# Altium schematic symbol library rcl.SCHLIB: 895 symbols (part 4 of 5)
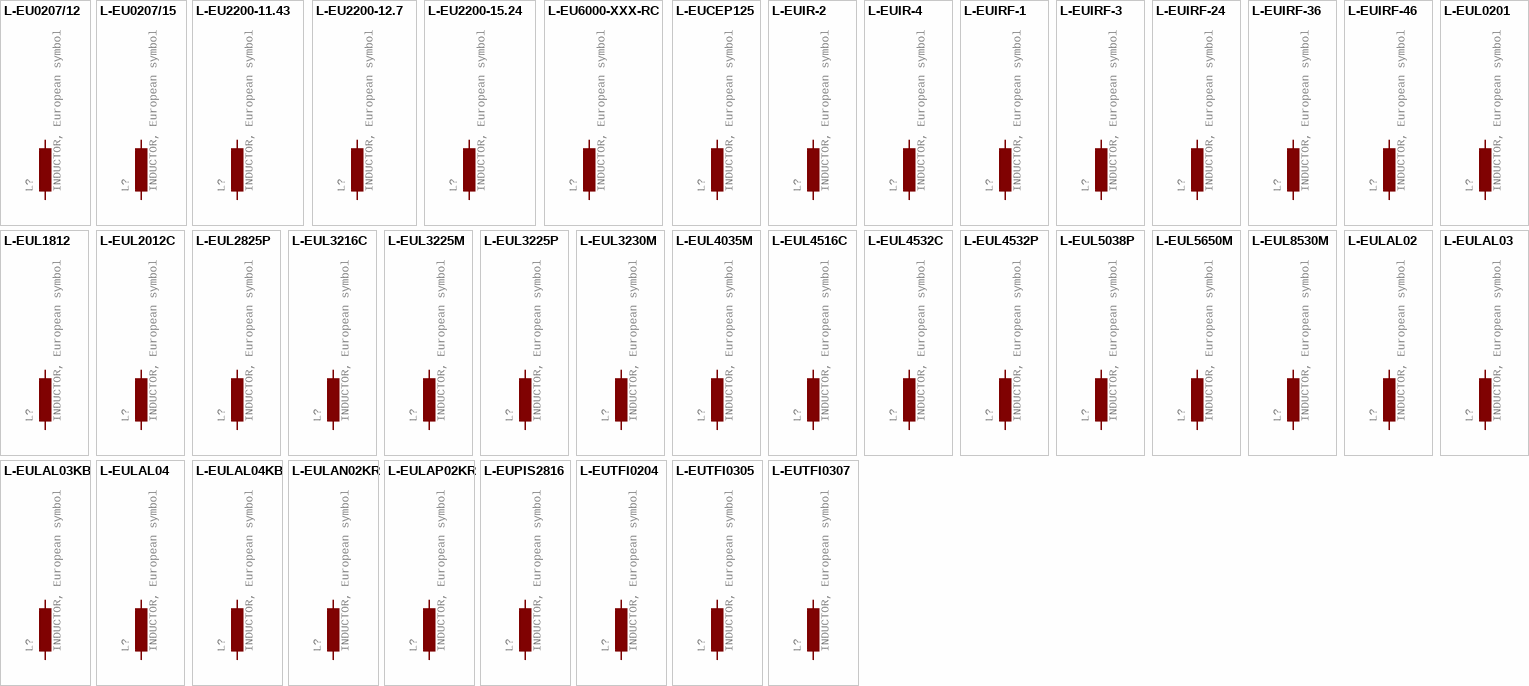
[diagram p25: symbols L-EU0207/12 to L-EUTFI0307]

## L-EUL3216C
designator L?, comment INDUCTOR, European symbol
GateName_1: G$1; SymbolName_1: L-EU; DeviceName: L3216C; POPULARITY: 2; LibraryName: rcl; DeviceSetName: L-EU; Package: L3216C; SPICEPREFIX: L
footprint L3216C
pins: 1, 2

## L-EUL3225M
designator L?, comment INDUCTOR, European symbol
GateName_1: G$1; SymbolName_1: L-EU; DeviceName: L3225M; POPULARITY: 2; LibraryName: rcl; DeviceSetName: L-EU; Package: L3225M; SPICEPREFIX: L
footprint L3225M
pins: 1, 2

## L-EUL3225P
designator L?, comment INDUCTOR, European symbol
GateName_1: G$1; SymbolName_1: L-EU; DeviceName: L3225P; POPULARITY: 0; LibraryName: rcl; DeviceSetName: L-EU; Package: L3225P; SPICEPREFIX: L
footprint L3225P
pins: 1, 2

## L-EUL3230M
designator L?, comment INDUCTOR, European symbol
GateName_1: G$1; SymbolName_1: L-EU; DeviceName: L3230M; POPULARITY: 0; LibraryName: rcl; DeviceSetName: L-EU; Package: L3230M; SPICEPREFIX: L
footprint L3230M
pins: 1, 2

## L-EUL4035M
designator L?, comment INDUCTOR, European symbol
GateName_1: G$1; SymbolName_1: L-EU; DeviceName: L4035M; POPULARITY: 0; LibraryName: rcl; DeviceSetName: L-EU; Package: L4035M; SPICEPREFIX: L
footprint L4035M
pins: 1, 2

## L-EUL4516C
designator L?, comment INDUCTOR, European symbol
GateName_1: G$1; SymbolName_1: L-EU; DeviceName: L4516C; POPULARITY: 0; LibraryName: rcl; DeviceSetName: L-EU; Package: L4516C; SPICEPREFIX: L
footprint L4516C
pins: 1, 2

## L-EUL4532C
designator L?, comment INDUCTOR, European symbol
GateName_1: G$1; SymbolName_1: L-EU; DeviceName: L4532C; POPULARITY: 0; LibraryName: rcl; DeviceSetName: L-EU; Package: L4532M; SPICEPREFIX: L
footprint L4532M
pins: 1, 2

## L-EUL4532P
designator L?, comment INDUCTOR, European symbol
GateName_1: G$1; SymbolName_1: L-EU; DeviceName: L4532P; POPULARITY: 0; LibraryName: rcl; DeviceSetName: L-EU; Package: L4532P; SPICEPREFIX: L
footprint L4532P
pins: 1, 2

## L-EUL5038P
designator L?, comment INDUCTOR, European symbol
GateName_1: G$1; SymbolName_1: L-EU; DeviceName: L5038P; POPULARITY: 0; LibraryName: rcl; DeviceSetName: L-EU; Package: L5038P; SPICEPREFIX: L
footprint L5038P
pins: 1, 2

## L-EUL5650M
designator L?, comment INDUCTOR, European symbol
GateName_1: G$1; SymbolName_1: L-EU; DeviceName: L5650M; POPULARITY: 0; LibraryName: rcl; DeviceSetName: L-EU; Package: L5650M; SPICEPREFIX: L
footprint L5650M
pins: 1, 2

## L-EUL8530M
designator L?, comment INDUCTOR, European symbol
GateName_1: G$1; SymbolName_1: L-EU; DeviceName: L8530M; POPULARITY: 0; LibraryName: rcl; DeviceSetName: L-EU; Package: L8530M; SPICEPREFIX: L
footprint L8530M
pins: 1, 2

## L-EULAL02
designator L?, comment INDUCTOR, European symbol
GateName_1: G$1; SymbolName_1: L-EU; DeviceName: LAL02; POPULARITY: 0; LibraryName: rcl; DeviceSetName: L-EU; Package: LAL02; SPICEPREFIX: L
footprint LAL02
pins: 1, 2

## L-EULAL03
designator L?, comment INDUCTOR, European symbol
GateName_1: G$1; SymbolName_1: L-EU; DeviceName: LAL03; POPULARITY: 0; LibraryName: rcl; DeviceSetName: L-EU; Package: LAL03; SPICEPREFIX: L
footprint LAL03
pins: 1, 2

## L-EULAL03KB
designator L?, comment INDUCTOR, European symbol
GateName_1: G$1; SymbolName_1: L-EU; DeviceName: LAL03KB; POPULARITY: 0; LibraryName: rcl; DeviceSetName: L-EU; Package: LAL03KH; SPICEPREFIX: L
footprint LAL03KH
pins: 1, 2

## L-EULAL04
designator L?, comment INDUCTOR, European symbol
GateName_1: G$1; SymbolName_1: L-EU; DeviceName: LAL04; POPULARITY: 0; LibraryName: rcl; DeviceSetName: L-EU; Package: LAL04; SPICEPREFIX: L
footprint LAL04
pins: 1, 2

## L-EULAL04KB
designator L?, comment INDUCTOR, European symbol
GateName_1: G$1; SymbolName_1: L-EU; DeviceName: LAL04KB; POPULARITY: 0; LibraryName: rcl; DeviceSetName: L-EU; Package: LAL04KB; SPICEPREFIX: L
footprint LAL04KB
pins: 1, 2

## L-EULAN02KR
designator L?, comment INDUCTOR, European symbol
GateName_1: G$1; SymbolName_1: L-EU; DeviceName: LAN02KR; POPULARITY: 0; LibraryName: rcl; DeviceSetName: L-EU; Package: LAN02KR; SPICEPREFIX: L
footprint LAN02KR
pins: 1, 2

## L-EULAP02KR
designator L?, comment INDUCTOR, European symbol
GateName_1: G$1; SymbolName_1: L-EU; DeviceName: LAP02KR; POPULARITY: 0; LibraryName: rcl; DeviceSetName: L-EU; Package: LAP02KR; SPICEPREFIX: L
footprint LAP02KR
pins: 1, 2

## L-EUPIS2816
designator L?, comment INDUCTOR, European symbol
GateName_1: G$1; SymbolName_1: L-EU; DeviceName: PIS2816; POPULARITY: 5; LibraryName: rcl; DeviceSetName: L-EU; Package: PIS2816; SPICEPREFIX: L
footprint PIS2816
pins: 1, 2

## L-EUTFI0204
designator L?, comment INDUCTOR, European symbol
GateName_1: G$1; SymbolName_1: L-EU; DeviceName: TFI0204; POPULARITY: 0; LibraryName: rcl; DeviceSetName: L-EU; Package: TFI0204; SPICEPREFIX: L
footprint TFI0204
pins: 1, 2

## L-EUTFI0305
designator L?, comment INDUCTOR, European symbol
GateName_1: G$1; SymbolName_1: L-EU; DeviceName: TFI0305; POPULARITY: 0; LibraryName: rcl; DeviceSetName: L-EU; Package: TFI0305; SPICEPREFIX: L
footprint TFI0305
pins: 1, 2

## L-EUTFI0307
designator L?, comment INDUCTOR, European symbol
GateName_1: G$1; SymbolName_1: L-EU; DeviceName: TFI0307; POPULARITY: 0; LibraryName: rcl; DeviceSetName: L-EU; Package: TFI0307; SPICEPREFIX: L
footprint TFI0307
pins: 1, 2

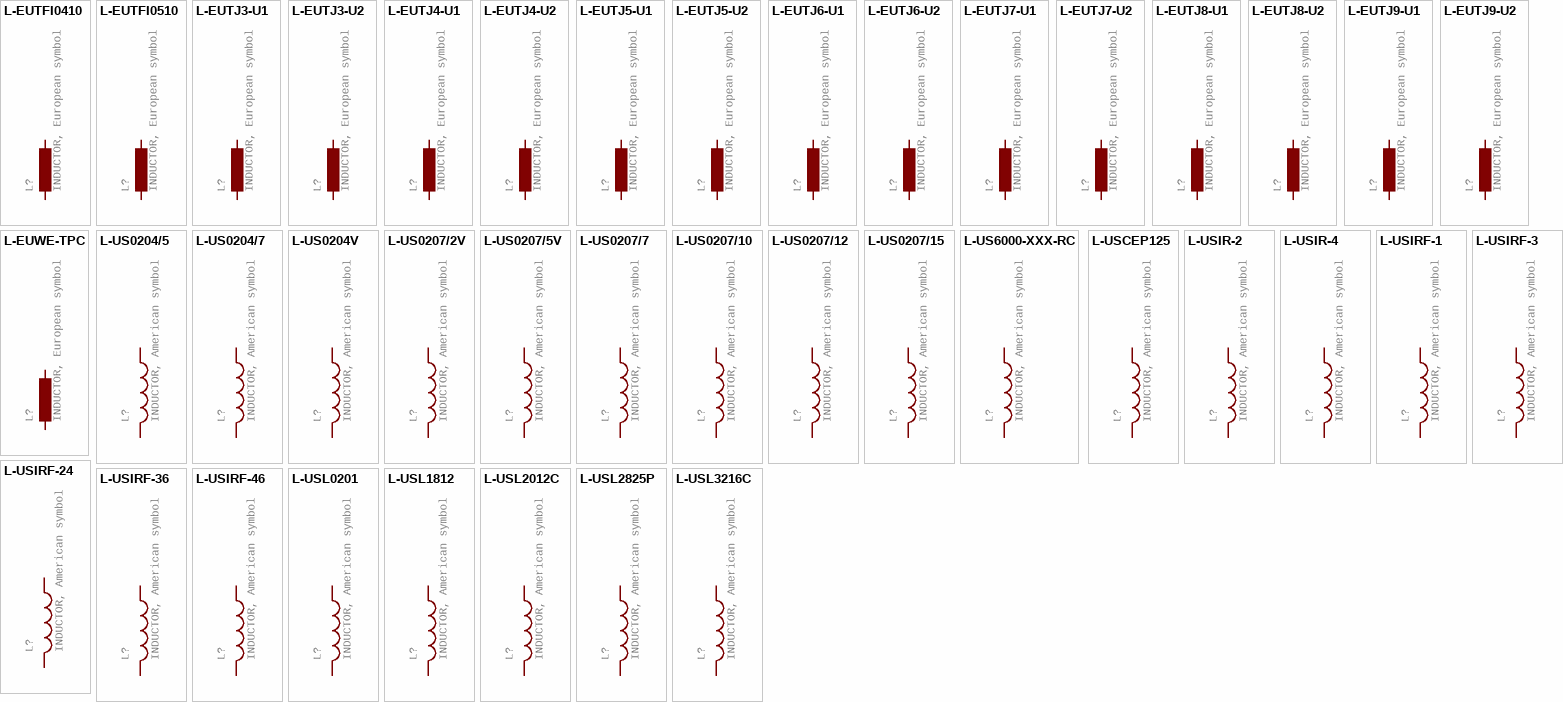
[diagram p15: symbols L-EUTFI0410 to L-USL3216C]

## L-EUTFI0410
designator L?, comment INDUCTOR, European symbol
GateName_1: G$1; SymbolName_1: L-EU; DeviceName: TFI0410; POPULARITY: 0; LibraryName: rcl; DeviceSetName: L-EU; Package: TFI0410; SPICEPREFIX: L
footprint TFI0410
pins: 1, 2

## L-EUTFI0510
designator L?, comment INDUCTOR, European symbol
GateName_1: G$1; SymbolName_1: L-EU; DeviceName: TFI0510; POPULARITY: 0; LibraryName: rcl; DeviceSetName: L-EU; Package: TFI0510; SPICEPREFIX: L
footprint TFI0510
pins: 1, 2

## L-EUTJ3-U1
designator L?, comment INDUCTOR, European symbol
GateName_1: G$1; SymbolName_1: L-EU; DeviceName: TJ3-U1; POPULARITY: 1; LibraryName: rcl; DeviceSetName: L-EU; Package: TJ3-U1; SPICEPREFIX: L
footprint TJ3-U1
pins: 1, 2

## L-EUTJ3-U2
designator L?, comment INDUCTOR, European symbol
GateName_1: G$1; SymbolName_1: L-EU; DeviceName: TJ3-U2; POPULARITY: 0; LibraryName: rcl; DeviceSetName: L-EU; Package: TJ3-U2; SPICEPREFIX: L
footprint TJ3-U2
pins: 1, 2

## L-EUTJ4-U1
designator L?, comment INDUCTOR, European symbol
GateName_1: G$1; SymbolName_1: L-EU; DeviceName: TJ4-U1; POPULARITY: 0; LibraryName: rcl; DeviceSetName: L-EU; Package: TJ4-U1; SPICEPREFIX: L
footprint TJ4-U1
pins: 1, 2

## L-EUTJ4-U2
designator L?, comment INDUCTOR, European symbol
GateName_1: G$1; SymbolName_1: L-EU; DeviceName: TJ4-U2; POPULARITY: 0; LibraryName: rcl; DeviceSetName: L-EU; Package: TJ4-U2; SPICEPREFIX: L
footprint TJ4-U2
pins: 1, 2

## L-EUTJ5-U1
designator L?, comment INDUCTOR, European symbol
GateName_1: G$1; SymbolName_1: L-EU; DeviceName: TJ5-U1; POPULARITY: 0; LibraryName: rcl; DeviceSetName: L-EU; Package: TJ5-U1; SPICEPREFIX: L
footprint TJ5-U1
pins: 1, 2

## L-EUTJ5-U2
designator L?, comment INDUCTOR, European symbol
GateName_1: G$1; SymbolName_1: L-EU; DeviceName: TJ5-U2; POPULARITY: 0; LibraryName: rcl; DeviceSetName: L-EU; Package: TJ5-U2; SPICEPREFIX: L
footprint TJ5-U2
pins: 1, 2

## L-EUTJ6-U1
designator L?, comment INDUCTOR, European symbol
GateName_1: G$1; SymbolName_1: L-EU; DeviceName: TJ6-U1; POPULARITY: 0; LibraryName: rcl; DeviceSetName: L-EU; Package: TJ6-U1; SPICEPREFIX: L
footprint TJ6-U1
pins: 1, 2

## L-EUTJ6-U2
designator L?, comment INDUCTOR, European symbol
GateName_1: G$1; SymbolName_1: L-EU; DeviceName: TJ6-U2; POPULARITY: 0; LibraryName: rcl; DeviceSetName: L-EU; Package: TJ6-U2; SPICEPREFIX: L
footprint TJ6-U2
pins: 1, 2

## L-EUTJ7-U1
designator L?, comment INDUCTOR, European symbol
GateName_1: G$1; SymbolName_1: L-EU; DeviceName: TJ7-U1; POPULARITY: 0; LibraryName: rcl; DeviceSetName: L-EU; Package: TJ7-U1; SPICEPREFIX: L
footprint TJ7-U1
pins: 1, 2

## L-EUTJ7-U2
designator L?, comment INDUCTOR, European symbol
GateName_1: G$1; SymbolName_1: L-EU; DeviceName: TJ7-U2; POPULARITY: 0; LibraryName: rcl; DeviceSetName: L-EU; Package: TJ7-U2; SPICEPREFIX: L
footprint TJ7-U2
pins: 1, 2

## L-EUTJ8-U1
designator L?, comment INDUCTOR, European symbol
GateName_1: G$1; SymbolName_1: L-EU; DeviceName: TJ8-U1; POPULARITY: 0; LibraryName: rcl; DeviceSetName: L-EU; Package: TJ8-U1; SPICEPREFIX: L
footprint TJ8-U1
pins: 1, 2

## L-EUTJ8-U2
designator L?, comment INDUCTOR, European symbol
GateName_1: G$1; SymbolName_1: L-EU; DeviceName: TJ8-U2; POPULARITY: 0; LibraryName: rcl; DeviceSetName: L-EU; Package: TJ8-U2; SPICEPREFIX: L
footprint TJ8-U2
pins: 1, 2

## L-EUTJ9-U1
designator L?, comment INDUCTOR, European symbol
GateName_1: G$1; SymbolName_1: L-EU; DeviceName: TJ9-U1; POPULARITY: 0; LibraryName: rcl; DeviceSetName: L-EU; Package: TJ9-U1; SPICEPREFIX: L
footprint TJ9-U1
pins: 1, 2

## L-EUTJ9-U2
designator L?, comment INDUCTOR, European symbol
GateName_1: G$1; SymbolName_1: L-EU; DeviceName: TJ9-U2; POPULARITY: 0; LibraryName: rcl; DeviceSetName: L-EU; Package: TJ9-U2; SPICEPREFIX: L
footprint TJ9-U2
pins: 1, 2

## L-EUWE-TPC
designator L?, comment INDUCTOR, European symbol
GateName_1: G$1; SymbolName_1: L-EU; DeviceName: WE-TPC; POPULARITY: 0; LibraryName: rcl; DeviceSetName: L-EU; Package: POWER-CHOKE_WE-TPC; SPICEPREFIX: L
footprint POWER-CHOKE_WE-TPC
pins: 1, 2

## L-US0204/5
designator L?, comment INDUCTOR, American symbol
GateName_1: G$1; SymbolName_1: L-US; DeviceName: 0204/5; POPULARITY: 0; LibraryName: rcl; DeviceSetName: L-US; Package: 0204/5; SPICEPREFIX: L
footprint 0204/5
pins: 1, 2

## L-US0204/7
designator L?, comment INDUCTOR, American symbol
GateName_1: G$1; SymbolName_1: L-US; DeviceName: 0204/7; POPULARITY: 8; LibraryName: rcl; DeviceSetName: L-US; Package: 0204/7; SPICEPREFIX: L
footprint 0204/7
pins: 1, 2

## L-US0204V
designator L?, comment INDUCTOR, American symbol
GateName_1: G$1; SymbolName_1: L-US; DeviceName: 0204V; POPULARITY: 0; LibraryName: rcl; DeviceSetName: L-US; Package: 0204V; SPICEPREFIX: L
footprint 0204V
pins: 1, 2

## L-US0207/2V
designator L?, comment INDUCTOR, American symbol
GateName_1: G$1; SymbolName_1: L-US; DeviceName: 0207/2V; POPULARITY: 0; LibraryName: rcl; DeviceSetName: L-US; Package: 0207/2V; SPICEPREFIX: L
footprint 0207/2V
pins: 1, 2

## L-US0207/5V
designator L?, comment INDUCTOR, American symbol
GateName_1: G$1; SymbolName_1: L-US; DeviceName: 0207/5V; POPULARITY: 0; LibraryName: rcl; DeviceSetName: L-US; Package: 0207/5V; SPICEPREFIX: L
footprint 0207/5V
pins: 1, 2

## L-US0207/7
designator L?, comment INDUCTOR, American symbol
GateName_1: G$1; SymbolName_1: L-US; DeviceName: 0207/7; POPULARITY: 2; LibraryName: rcl; DeviceSetName: L-US; Package: 0207/7; SPICEPREFIX: L
footprint 0207/7
pins: 1, 2

## L-US0207/10
designator L?, comment INDUCTOR, American symbol
GateName_1: G$1; SymbolName_1: L-US; DeviceName: 0207/10; POPULARITY: 6; LibraryName: rcl; DeviceSetName: L-US; Package: 0207/10; SPICEPREFIX: L
footprint 0207/10
pins: 1, 2

## L-US0207/12
designator L?, comment INDUCTOR, American symbol
GateName_1: G$1; SymbolName_1: L-US; DeviceName: 0207/12; POPULARITY: 0; LibraryName: rcl; DeviceSetName: L-US; Package: 0207/12; SPICEPREFIX: L
footprint 0207/12
pins: 1, 2

## L-US0207/15
designator L?, comment INDUCTOR, American symbol
GateName_1: G$1; SymbolName_1: L-US; DeviceName: 0207/15; POPULARITY: 0; LibraryName: rcl; DeviceSetName: L-US; Package: 0207/15; SPICEPREFIX: L
footprint 0207/15
pins: 1, 2

## L-US6000-XXX-RC
designator L?, comment INDUCTOR, American symbol
GateName_1: G$1; SymbolName_1: L-US; DeviceName: 6000-XXX-RC; POPULARITY: 5; LibraryName: rcl; DeviceSetName: L-US; Package: 6000-XXXX-RC; SPICEPREFIX: L
footprint 6000-XXXX-RC
pins: 1, 2

## L-USCEP125
designator L?, comment INDUCTOR, American symbol
GateName_1: G$1; SymbolName_1: L-US; DeviceName: CEP125; POPULARITY: 0; LibraryName: rcl; DeviceSetName: L-US; Package: CEP125; SPICEPREFIX: L
footprint CEP125
pins: 1, 2

## L-USIR-2
designator L?, comment INDUCTOR, American symbol
GateName_1: G$1; SymbolName_1: L-US; DeviceName: IR-2; POPULARITY: 0; LibraryName: rcl; DeviceSetName: L-US; Package: IR-2; SPICEPREFIX: L
footprint IR-2
pins: 1, 2

## L-USIR-4
designator L?, comment INDUCTOR, American symbol
GateName_1: G$1; SymbolName_1: L-US; DeviceName: IR-4; POPULARITY: 0; LibraryName: rcl; DeviceSetName: L-US; Package: IR-4; SPICEPREFIX: L
footprint IR-4
pins: 1, 2

## L-USIRF-1
designator L?, comment INDUCTOR, American symbol
GateName_1: G$1; SymbolName_1: L-US; DeviceName: IRF-1; POPULARITY: 0; LibraryName: rcl; DeviceSetName: L-US; Package: IRF-1; SPICEPREFIX: L
footprint IRF-1
pins: 1, 2

## L-USIRF-3
designator L?, comment INDUCTOR, American symbol
GateName_1: G$1; SymbolName_1: L-US; DeviceName: IRF-3; POPULARITY: 0; LibraryName: rcl; DeviceSetName: L-US; Package: IRF-3; SPICEPREFIX: L
footprint IRF-3
pins: 1, 2

## L-USIRF-24
designator L?, comment INDUCTOR, American symbol
GateName_1: G$1; SymbolName_1: L-US; DeviceName: IRF-24; POPULARITY: 0; LibraryName: rcl; DeviceSetName: L-US; Package: IRF24; SPICEPREFIX: L
footprint IRF24
pins: 1, 2

## L-USIRF-36
designator L?, comment INDUCTOR, American symbol
GateName_1: G$1; SymbolName_1: L-US; DeviceName: IRF-36; POPULARITY: 0; LibraryName: rcl; DeviceSetName: L-US; Package: IRF36; SPICEPREFIX: L
footprint IRF36
pins: 1, 2

## L-USIRF-46
designator L?, comment INDUCTOR, American symbol
GateName_1: G$1; SymbolName_1: L-US; DeviceName: IRF-46; POPULARITY: 0; LibraryName: rcl; DeviceSetName: L-US; Package: IRF46; SPICEPREFIX: L
footprint IRF46
pins: 1, 2

## L-USL0201
designator L?, comment INDUCTOR, American symbol
GateName_1: G$1; SymbolName_1: L-US; DeviceName: L0201; POPULARITY: 0; LibraryName: rcl; DeviceSetName: L-US; Package: L0201; SPICEPREFIX: L
footprint L0201
pins: 1, 2

## L-USL1812
designator L?, comment INDUCTOR, American symbol
GateName_1: G$1; SymbolName_1: L-US; DeviceName: L1812; POPULARITY: 3; LibraryName: rcl; DeviceSetName: L-US; Package: L1812; SPICEPREFIX: L
footprint L1812
pins: 1, 2

## L-USL2012C
designator L?, comment INDUCTOR, American symbol
GateName_1: G$1; SymbolName_1: L-US; DeviceName: L2012C; POPULARITY: 6; LibraryName: rcl; DeviceSetName: L-US; Package: L2012C; SPICEPREFIX: L
footprint L2012C
pins: 1, 2

## L-USL2825P
designator L?, comment INDUCTOR, American symbol
GateName_1: G$1; SymbolName_1: L-US; DeviceName: L2825P; POPULARITY: 3; LibraryName: rcl; DeviceSetName: L-US; Package: L2825P; SPICEPREFIX: L
footprint L2825P
pins: 1, 2

## L-USL3216C
designator L?, comment INDUCTOR, American symbol
GateName_1: G$1; SymbolName_1: L-US; DeviceName: L3216C; POPULARITY: 3; LibraryName: rcl; DeviceSetName: L-US; Package: L3216C; SPICEPREFIX: L
footprint L3216C
pins: 1, 2

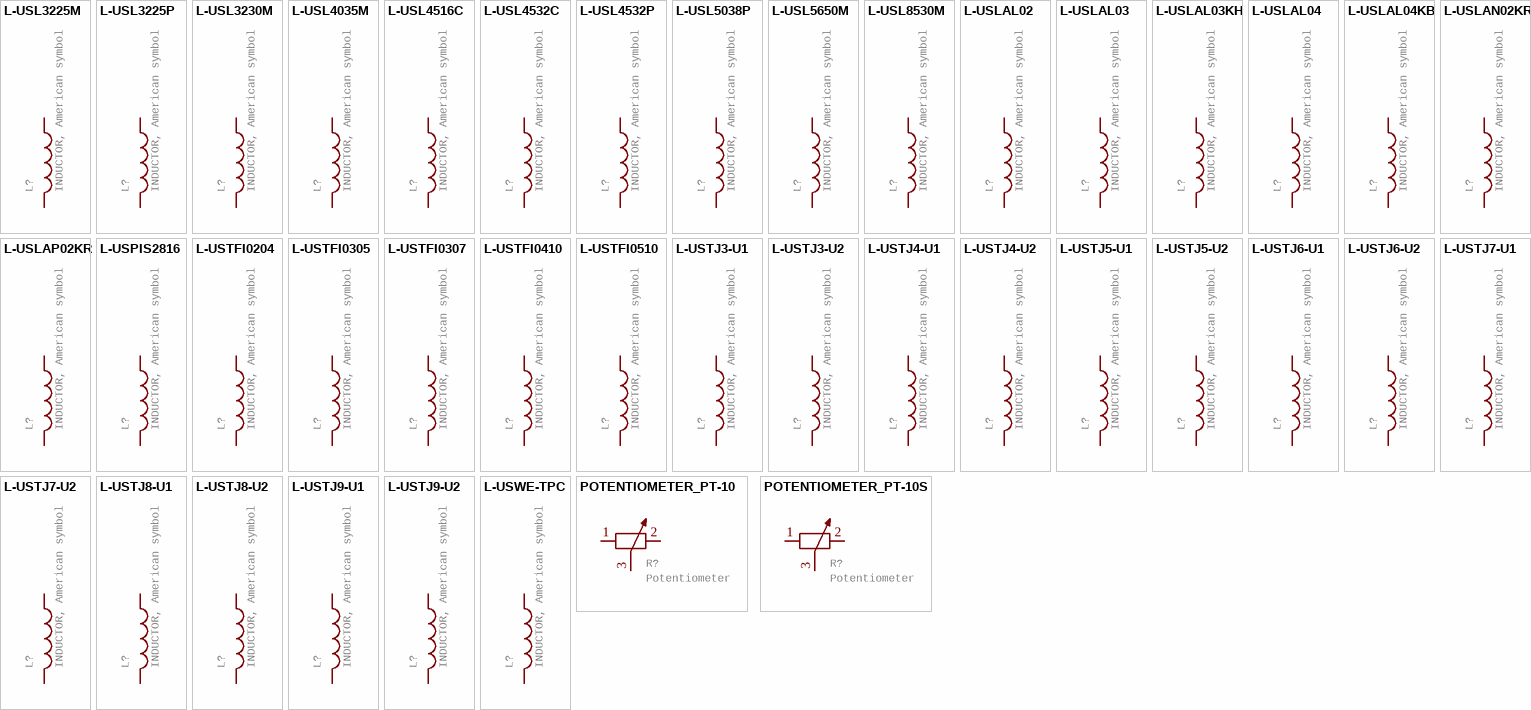
[diagram p16: symbols L-USL3225M to POTENTIOMETER_PT-10S]

## L-USL3225M
designator L?, comment INDUCTOR, American symbol
GateName_1: G$1; SymbolName_1: L-US; DeviceName: L3225M; POPULARITY: 11; LibraryName: rcl; DeviceSetName: L-US; Package: L3225M; SPICEPREFIX: L
footprint L3225M
pins: 1, 2

## L-USL3225P
designator L?, comment INDUCTOR, American symbol
GateName_1: G$1; SymbolName_1: L-US; DeviceName: L3225P; POPULARITY: 1; LibraryName: rcl; DeviceSetName: L-US; Package: L3225P; SPICEPREFIX: L
footprint L3225P
pins: 1, 2

## L-USL3230M
designator L?, comment INDUCTOR, American symbol
GateName_1: G$1; SymbolName_1: L-US; DeviceName: L3230M; POPULARITY: 0; LibraryName: rcl; DeviceSetName: L-US; Package: L3230M; SPICEPREFIX: L
footprint L3230M
pins: 1, 2

## L-USL4035M
designator L?, comment INDUCTOR, American symbol
GateName_1: G$1; SymbolName_1: L-US; DeviceName: L4035M; POPULARITY: 0; LibraryName: rcl; DeviceSetName: L-US; Package: L4035M; SPICEPREFIX: L
footprint L4035M
pins: 1, 2

## L-USL4516C
designator L?, comment INDUCTOR, American symbol
GateName_1: G$1; SymbolName_1: L-US; DeviceName: L4516C; POPULARITY: 0; LibraryName: rcl; DeviceSetName: L-US; Package: L4516C; SPICEPREFIX: L
footprint L4516C
pins: 1, 2

## L-USL4532C
designator L?, comment INDUCTOR, American symbol
GateName_1: G$1; SymbolName_1: L-US; DeviceName: L4532C; POPULARITY: 0; LibraryName: rcl; DeviceSetName: L-US; Package: L4532M; SPICEPREFIX: L
footprint L4532M
pins: 1, 2

## L-USL4532P
designator L?, comment INDUCTOR, American symbol
GateName_1: G$1; SymbolName_1: L-US; DeviceName: L4532P; POPULARITY: 0; LibraryName: rcl; DeviceSetName: L-US; Package: L4532P; SPICEPREFIX: L
footprint L4532P
pins: 1, 2

## L-USL5038P
designator L?, comment INDUCTOR, American symbol
GateName_1: G$1; SymbolName_1: L-US; DeviceName: L5038P; POPULARITY: 0; LibraryName: rcl; DeviceSetName: L-US; Package: L5038P; SPICEPREFIX: L
footprint L5038P
pins: 1, 2

## L-USL5650M
designator L?, comment INDUCTOR, American symbol
GateName_1: G$1; SymbolName_1: L-US; DeviceName: L5650M; POPULARITY: 0; LibraryName: rcl; DeviceSetName: L-US; Package: L5650M; SPICEPREFIX: L
footprint L5650M
pins: 1, 2

## L-USL8530M
designator L?, comment INDUCTOR, American symbol
GateName_1: G$1; SymbolName_1: L-US; DeviceName: L8530M; POPULARITY: 0; LibraryName: rcl; DeviceSetName: L-US; Package: L8530M; SPICEPREFIX: L
footprint L8530M
pins: 1, 2

## L-USLAL02
designator L?, comment INDUCTOR, American symbol
GateName_1: G$1; SymbolName_1: L-US; DeviceName: LAL02; POPULARITY: 0; LibraryName: rcl; DeviceSetName: L-US; Package: LAL02; SPICEPREFIX: L
footprint LAL02
pins: 1, 2

## L-USLAL03
designator L?, comment INDUCTOR, American symbol
GateName_1: G$1; SymbolName_1: L-US; DeviceName: LAL03; POPULARITY: 0; LibraryName: rcl; DeviceSetName: L-US; Package: LAL03; SPICEPREFIX: L
footprint LAL03
pins: 1, 2

## L-USLAL03KH
designator L?, comment INDUCTOR, American symbol
GateName_1: G$1; SymbolName_1: L-US; DeviceName: LAL03KH; POPULARITY: 0; LibraryName: rcl; DeviceSetName: L-US; Package: LAL03KH; SPICEPREFIX: L
footprint LAL03KH
pins: 1, 2

## L-USLAL04
designator L?, comment INDUCTOR, American symbol
GateName_1: G$1; SymbolName_1: L-US; DeviceName: LAL04; POPULARITY: 0; LibraryName: rcl; DeviceSetName: L-US; Package: LAL04; SPICEPREFIX: L
footprint LAL04
pins: 1, 2

## L-USLAL04KB
designator L?, comment INDUCTOR, American symbol
GateName_1: G$1; SymbolName_1: L-US; DeviceName: LAL04KB; POPULARITY: 0; LibraryName: rcl; DeviceSetName: L-US; Package: LAL04KB; SPICEPREFIX: L
footprint LAL04KB
pins: 1, 2

## L-USLAN02KR
designator L?, comment INDUCTOR, American symbol
GateName_1: G$1; SymbolName_1: L-US; DeviceName: LAN02KR; POPULARITY: 1; LibraryName: rcl; DeviceSetName: L-US; Package: LAN02KR; SPICEPREFIX: L
footprint LAN02KR
pins: 1, 2

## L-USLAP02KR
designator L?, comment INDUCTOR, American symbol
GateName_1: G$1; SymbolName_1: L-US; DeviceName: LAP02KR; POPULARITY: 0; LibraryName: rcl; DeviceSetName: L-US; Package: LAP02KR; SPICEPREFIX: L
footprint LAP02KR
pins: 1, 2

## L-USPIS2816
designator L?, comment INDUCTOR, American symbol
GateName_1: G$1; SymbolName_1: L-US; DeviceName: PIS2816; POPULARITY: 0; LibraryName: rcl; DeviceSetName: L-US; Package: PIS2816; SPICEPREFIX: L
footprint PIS2816
pins: 1, 2

## L-USTFI0204
designator L?, comment INDUCTOR, American symbol
GateName_1: G$1; SymbolName_1: L-US; DeviceName: TFI0204; POPULARITY: 0; LibraryName: rcl; DeviceSetName: L-US; Package: TFI0204; SPICEPREFIX: L
footprint TFI0204
pins: 1, 2

## L-USTFI0305
designator L?, comment INDUCTOR, American symbol
GateName_1: G$1; SymbolName_1: L-US; DeviceName: TFI0305; POPULARITY: 0; LibraryName: rcl; DeviceSetName: L-US; Package: TFI0305; SPICEPREFIX: L
footprint TFI0305
pins: 1, 2

## L-USTFI0307
designator L?, comment INDUCTOR, American symbol
GateName_1: G$1; SymbolName_1: L-US; DeviceName: TFI0307; POPULARITY: 1; LibraryName: rcl; DeviceSetName: L-US; Package: TFI0307; SPICEPREFIX: L
footprint TFI0307
pins: 1, 2

## L-USTFI0410
designator L?, comment INDUCTOR, American symbol
GateName_1: G$1; SymbolName_1: L-US; DeviceName: TFI0410; POPULARITY: 0; LibraryName: rcl; DeviceSetName: L-US; Package: TFI0410; SPICEPREFIX: L
footprint TFI0410
pins: 1, 2

## L-USTFI0510
designator L?, comment INDUCTOR, American symbol
GateName_1: G$1; SymbolName_1: L-US; DeviceName: TFI0510; POPULARITY: 0; LibraryName: rcl; DeviceSetName: L-US; Package: TFI0510; SPICEPREFIX: L
footprint TFI0510
pins: 1, 2

## L-USTJ3-U1
designator L?, comment INDUCTOR, American symbol
GateName_1: G$1; SymbolName_1: L-US; DeviceName: TJ3-U1; POPULARITY: 0; LibraryName: rcl; DeviceSetName: L-US; Package: TJ3-U1; SPICEPREFIX: L
footprint TJ3-U1
pins: 1, 2

## L-USTJ3-U2
designator L?, comment INDUCTOR, American symbol
GateName_1: G$1; SymbolName_1: L-US; DeviceName: TJ3-U2; POPULARITY: 0; LibraryName: rcl; DeviceSetName: L-US; Package: TJ3-U2; SPICEPREFIX: L
footprint TJ3-U2
pins: 1, 2

## L-USTJ4-U1
designator L?, comment INDUCTOR, American symbol
GateName_1: G$1; SymbolName_1: L-US; DeviceName: TJ4-U1; POPULARITY: 0; LibraryName: rcl; DeviceSetName: L-US; Package: TJ4-U1; SPICEPREFIX: L
footprint TJ4-U1
pins: 1, 2

## L-USTJ4-U2
designator L?, comment INDUCTOR, American symbol
GateName_1: G$1; SymbolName_1: L-US; DeviceName: TJ4-U2; POPULARITY: 0; LibraryName: rcl; DeviceSetName: L-US; Package: TJ4-U2; SPICEPREFIX: L
footprint TJ4-U2
pins: 1, 2

## L-USTJ5-U1
designator L?, comment INDUCTOR, American symbol
GateName_1: G$1; SymbolName_1: L-US; DeviceName: TJ5-U1; POPULARITY: 0; LibraryName: rcl; DeviceSetName: L-US; Package: TJ5-U1; SPICEPREFIX: L
footprint TJ5-U1
pins: 1, 2

## L-USTJ5-U2
designator L?, comment INDUCTOR, American symbol
GateName_1: G$1; SymbolName_1: L-US; DeviceName: TJ5-U2; POPULARITY: 0; LibraryName: rcl; DeviceSetName: L-US; Package: TJ5-U2; SPICEPREFIX: L
footprint TJ5-U2
pins: 1, 2

## L-USTJ6-U1
designator L?, comment INDUCTOR, American symbol
GateName_1: G$1; SymbolName_1: L-US; DeviceName: TJ6-U1; POPULARITY: 0; LibraryName: rcl; DeviceSetName: L-US; Package: TJ6-U1; SPICEPREFIX: L
footprint TJ6-U1
pins: 1, 2

## L-USTJ6-U2
designator L?, comment INDUCTOR, American symbol
GateName_1: G$1; SymbolName_1: L-US; DeviceName: TJ6-U2; POPULARITY: 0; LibraryName: rcl; DeviceSetName: L-US; Package: TJ6-U2; SPICEPREFIX: L
footprint TJ6-U2
pins: 1, 2

## L-USTJ7-U1
designator L?, comment INDUCTOR, American symbol
GateName_1: G$1; SymbolName_1: L-US; DeviceName: TJ7-U1; POPULARITY: 0; LibraryName: rcl; DeviceSetName: L-US; Package: TJ7-U1; SPICEPREFIX: L
footprint TJ7-U1
pins: 1, 2

## L-USTJ7-U2
designator L?, comment INDUCTOR, American symbol
GateName_1: G$1; SymbolName_1: L-US; DeviceName: TJ7-U2; POPULARITY: 0; LibraryName: rcl; DeviceSetName: L-US; Package: TJ7-U2; SPICEPREFIX: L
footprint TJ7-U2
pins: 1, 2

## L-USTJ8-U1
designator L?, comment INDUCTOR, American symbol
GateName_1: G$1; SymbolName_1: L-US; DeviceName: TJ8-U1; POPULARITY: 0; LibraryName: rcl; DeviceSetName: L-US; Package: TJ8-U1; SPICEPREFIX: L
footprint TJ8-U1
pins: 1, 2

## L-USTJ8-U2
designator L?, comment INDUCTOR, American symbol
GateName_1: G$1; SymbolName_1: L-US; DeviceName: TJ8-U2; POPULARITY: 0; LibraryName: rcl; DeviceSetName: L-US; Package: TJ8-U2; SPICEPREFIX: L
footprint TJ8-U2
pins: 1, 2

## L-USTJ9-U1
designator L?, comment INDUCTOR, American symbol
GateName_1: G$1; SymbolName_1: L-US; DeviceName: TJ9-U1; POPULARITY: 0; LibraryName: rcl; DeviceSetName: L-US; Package: TJ9-U1; SPICEPREFIX: L
footprint TJ9-U1
pins: 1, 2

## L-USTJ9-U2
designator L?, comment INDUCTOR, American symbol
GateName_1: G$1; SymbolName_1: L-US; DeviceName: TJ9-U2; POPULARITY: 0; LibraryName: rcl; DeviceSetName: L-US; Package: TJ9-U2; SPICEPREFIX: L
footprint TJ9-U2
pins: 1, 2

## L-USWE-TPC
designator L?, comment INDUCTOR, American symbol
GateName_1: G$1; SymbolName_1: L-US; DeviceName: WE-TPC; POPULARITY: 0; LibraryName: rcl; DeviceSetName: L-US; Package: POWER-CHOKE_WE-TPC; SPICEPREFIX: L
footprint POWER-CHOKE_WE-TPC
pins: 1, 2

## POTENTIOMETER_PT-10
designator R?, comment Potentiometer
GateName_1: 1; SymbolName_1: POTEURO; DeviceName: PT-10; DeviceSetName: POTENTIOMETER_; POPULARITY: 15; LibraryName: rcl; Package: PT-10; SPICEMODEL: POT; SPICEPREFIX: X
footprint PT-10
pins: 1, 2, 3

## POTENTIOMETER_PT-10S
designator R?, comment Potentiometer
GateName_1: 1; SymbolName_1: POTEURO; DeviceName: PT-10S; DeviceSetName: POTENTIOMETER_; POPULARITY: 2; LibraryName: rcl; Package: PT-10S; SPICEMODEL: POT; SPICEPREFIX: X
footprint PT-10S
pins: 1, 2, 3

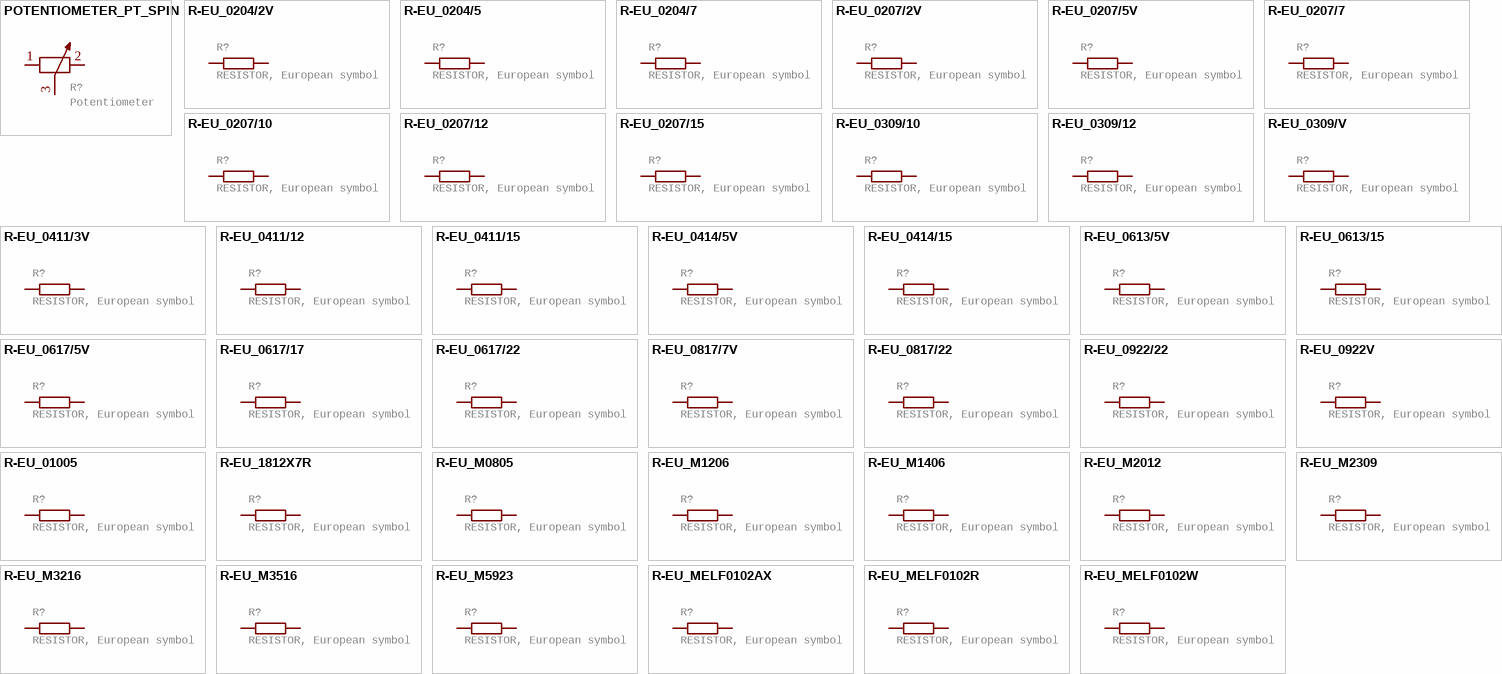
[diagram p17: symbols POTENTIOMETER_PT_SPIN to R-EU_MELF0102W]

## POTENTIOMETER_PT_SPIN
designator R?, comment Potentiometer
GateName_1: 1; SymbolName_1: POTEURO; DeviceName: PT_SPIN; DeviceSetName: POTENTIOMETER_; POPULARITY: 0; LibraryName: rcl; Package: PT-SPIN; SPICEMODEL: POT; SPICEPREFIX: X
footprint PT-SPIN
pins: 1, 2, 3

## R-EU_0204/2V
designator R?, comment RESISTOR, European symbol
GateName_1: G$1; SymbolName_1: R-EU; DeviceName: 0204/2V; DeviceSetName: R-EU_; POPULARITY: 11; LibraryName: rcl; Package: 0204V; SPICEPREFIX: R
footprint 0204V
pins: 1, 2

## R-EU_0204/5
designator R?, comment RESISTOR, European symbol
GateName_1: G$1; SymbolName_1: R-EU; DeviceName: 0204/5; DeviceSetName: R-EU_; POPULARITY: 35; LibraryName: rcl; Package: 0204/5; SPICEPREFIX: R
footprint 0204/5
pins: 1, 2

## R-EU_0204/7
designator R?, comment RESISTOR, European symbol
GateName_1: G$1; SymbolName_1: R-EU; DeviceName: 0204/7; DeviceSetName: R-EU_; POPULARITY: 79; LibraryName: rcl; Package: 0204/7; SPICEPREFIX: R
footprint 0204/7
pins: 1, 2

## R-EU_0207/2V
designator R?, comment RESISTOR, European symbol
GateName_1: G$1; SymbolName_1: R-EU; DeviceName: 0207/2V; DeviceSetName: R-EU_; POPULARITY: 17; LibraryName: rcl; Package: 0207/2V; SPICEPREFIX: R
footprint 0207/2V
pins: 1, 2

## R-EU_0207/5V
designator R?, comment RESISTOR, European symbol
GateName_1: G$1; SymbolName_1: R-EU; DeviceName: 0207/5V; DeviceSetName: R-EU_; POPULARITY: 4; LibraryName: rcl; Package: 0207/5V; SPICEPREFIX: R
footprint 0207/5V
pins: 1, 2

## R-EU_0207/7
designator R?, comment RESISTOR, European symbol
GateName_1: G$1; SymbolName_1: R-EU; DeviceName: 0207/7; DeviceSetName: R-EU_; POPULARITY: 46; LibraryName: rcl; Package: 0207/7; SPICEPREFIX: R
footprint 0207/7
pins: 1, 2

## R-EU_0207/10
designator R?, comment RESISTOR, European symbol
GateName_1: G$1; SymbolName_1: R-EU; DeviceName: 0207/10; DeviceSetName: R-EU_; POPULARITY: 81; LibraryName: rcl; Package: 0207/10; SPICEPREFIX: R
footprint 0207/10
pins: 1, 2

## R-EU_0207/12
designator R?, comment RESISTOR, European symbol
GateName_1: G$1; SymbolName_1: R-EU; DeviceName: 0207/12; DeviceSetName: R-EU_; POPULARITY: 9; LibraryName: rcl; Package: 0207/12; SPICEPREFIX: R
footprint 0207/12
pins: 1, 2

## R-EU_0207/15
designator R?, comment RESISTOR, European symbol
GateName_1: G$1; SymbolName_1: R-EU; DeviceName: 0207/15; DeviceSetName: R-EU_; POPULARITY: 2; LibraryName: rcl; Package: 0207/15; SPICEPREFIX: R
footprint 0207/15
pins: 1, 2

## R-EU_0309/10
designator R?, comment RESISTOR, European symbol
GateName_1: G$1; SymbolName_1: R-EU; DeviceName: 0309/10; DeviceSetName: R-EU_; POPULARITY: 2; LibraryName: rcl; Package: 0309/10; SPICEPREFIX: R
footprint 0309/10
pins: 1, 2

## R-EU_0309/12
designator R?, comment RESISTOR, European symbol
GateName_1: G$1; SymbolName_1: R-EU; DeviceName: 0309/12; DeviceSetName: R-EU_; POPULARITY: 6; LibraryName: rcl; Package: 0309/12; SPICEPREFIX: R
footprint 0309/12
pins: 1, 2

## R-EU_0309/V
designator R?, comment RESISTOR, European symbol
GateName_1: G$1; SymbolName_1: R-EU; DeviceName: 0309/V; DeviceSetName: R-EU_; POPULARITY: 2; LibraryName: rcl; Package: 0309V; SPICEPREFIX: R
footprint 0309V
pins: 1, 2

## R-EU_0411/3V
designator R?, comment RESISTOR, European symbol
GateName_1: G$1; SymbolName_1: R-EU; DeviceName: 0411/3V; DeviceSetName: R-EU_; POPULARITY: 4; LibraryName: rcl; Package: 0411V; SPICEPREFIX: R
footprint 0411V
pins: 1, 2

## R-EU_0411/12
designator R?, comment RESISTOR, European symbol
GateName_1: G$1; SymbolName_1: R-EU; DeviceName: 0411/12; DeviceSetName: R-EU_; POPULARITY: 5; LibraryName: rcl; Package: 0411/12; SPICEPREFIX: R
footprint 0411/12
pins: 1, 2

## R-EU_0411/15
designator R?, comment RESISTOR, European symbol
GateName_1: G$1; SymbolName_1: R-EU; DeviceName: 0411/15; DeviceSetName: R-EU_; POPULARITY: 1; LibraryName: rcl; Package: 0411/15; SPICEPREFIX: R
footprint 0411/15
pins: 1, 2

## R-EU_0414/5V
designator R?, comment RESISTOR, European symbol
GateName_1: G$1; SymbolName_1: R-EU; DeviceName: 0414/5V; DeviceSetName: R-EU_; POPULARITY: 1; LibraryName: rcl; Package: 0414V; SPICEPREFIX: R
footprint 0414V
pins: 1, 2

## R-EU_0414/15
designator R?, comment RESISTOR, European symbol
GateName_1: G$1; SymbolName_1: R-EU; DeviceName: 0414/15; DeviceSetName: R-EU_; POPULARITY: 0; LibraryName: rcl; Package: 0414/15; SPICEPREFIX: R
footprint 0414/15
pins: 1, 2

## R-EU_0613/5V
designator R?, comment RESISTOR, European symbol
GateName_1: G$1; SymbolName_1: R-EU; DeviceName: 0613/5V; DeviceSetName: R-EU_; POPULARITY: 0; LibraryName: rcl; Package: P0613V; SPICEPREFIX: R
footprint P0613V
pins: 1, 2

## R-EU_0613/15
designator R?, comment RESISTOR, European symbol
GateName_1: G$1; SymbolName_1: R-EU; DeviceName: 0613/15; DeviceSetName: R-EU_; POPULARITY: 0; LibraryName: rcl; Package: P0613/15; SPICEPREFIX: R
footprint P0613/15
pins: 1, 2

## R-EU_0617/5V
designator R?, comment RESISTOR, European symbol
GateName_1: G$1; SymbolName_1: R-EU; DeviceName: 0617/5V; DeviceSetName: R-EU_; POPULARITY: 0; LibraryName: rcl; Package: 0617V; SPICEPREFIX: R
footprint 0617V
pins: 1, 2

## R-EU_0617/17
designator R?, comment RESISTOR, European symbol
GateName_1: G$1; SymbolName_1: R-EU; DeviceName: 0617/17; DeviceSetName: R-EU_; POPULARITY: 0; LibraryName: rcl; Package: 0617/17; SPICEPREFIX: R
footprint 0617/17
pins: 1, 2

## R-EU_0617/22
designator R?, comment RESISTOR, European symbol
GateName_1: G$1; SymbolName_1: R-EU; DeviceName: 0617/22; DeviceSetName: R-EU_; POPULARITY: 2; LibraryName: rcl; Package: 0617/22; SPICEPREFIX: R
footprint 0617/22
pins: 1, 2

## R-EU_0817/7V
designator R?, comment RESISTOR, European symbol
GateName_1: G$1; SymbolName_1: R-EU; DeviceName: 0817/7V; DeviceSetName: R-EU_; POPULARITY: 0; LibraryName: rcl; Package: P0817V; SPICEPREFIX: R
footprint P0817V
pins: 1, 2

## R-EU_0817/22
designator R?, comment RESISTOR, European symbol
GateName_1: G$1; SymbolName_1: R-EU; DeviceName: 0817/22; DeviceSetName: R-EU_; POPULARITY: 0; LibraryName: rcl; Package: P0817/22; SPICEPREFIX: R
footprint P0817/22
pins: 1, 2

## R-EU_0922/22
designator R?, comment RESISTOR, European symbol
GateName_1: G$1; SymbolName_1: R-EU; DeviceName: 0922/22; DeviceSetName: R-EU_; POPULARITY: 0; LibraryName: rcl; Package: 0922/22; SPICEPREFIX: R
footprint 0922/22
pins: 1, 2

## R-EU_0922V
designator R?, comment RESISTOR, European symbol
GateName_1: G$1; SymbolName_1: R-EU; DeviceName: 0922V; DeviceSetName: R-EU_; POPULARITY: 0; LibraryName: rcl; Package: 0922V; SPICEPREFIX: R
footprint 0922V
pins: 1, 2

## R-EU_01005
designator R?, comment RESISTOR, European symbol
GateName_1: G$1; SymbolName_1: R-EU; DeviceName: 01005; DeviceSetName: R-EU_; POPULARITY: 0; LibraryName: rcl; Package: R01005; SPICEPREFIX: R
footprint R01005
pins: 1, 2

## R-EU_1812X7R
designator R?, comment RESISTOR, European symbol
GateName_1: G$1; SymbolName_1: R-EU; DeviceName: 1812X7R; DeviceSetName: R-EU_; POPULARITY: 0; LibraryName: rcl; Package: 1812X7R; SPICEPREFIX: R
footprint 1812X7R
pins: 1, 2

## R-EU_M0805
designator R?, comment RESISTOR, European symbol
GateName_1: G$1; SymbolName_1: R-EU; DeviceName: M0805; DeviceSetName: R-EU_; POPULARITY: 45; LibraryName: rcl; Package: M0805; SPICEPREFIX: R
footprint M0805
pins: 1, 2

## R-EU_M1206
designator R?, comment RESISTOR, European symbol
GateName_1: G$1; SymbolName_1: R-EU; DeviceName: M1206; DeviceSetName: R-EU_; POPULARITY: 17; LibraryName: rcl; Package: M1206; SPICEPREFIX: R
footprint M1206
pins: 1, 2

## R-EU_M1406
designator R?, comment RESISTOR, European symbol
GateName_1: G$1; SymbolName_1: R-EU; DeviceName: M1406; DeviceSetName: R-EU_; POPULARITY: 0; LibraryName: rcl; Package: M1406; SPICEPREFIX: R
footprint M1406
pins: 1, 2

## R-EU_M2012
designator R?, comment RESISTOR, European symbol
GateName_1: G$1; SymbolName_1: R-EU; DeviceName: M2012; DeviceSetName: R-EU_; POPULARITY: 0; LibraryName: rcl; Package: M2012; SPICEPREFIX: R
footprint M2012
pins: 1, 2

## R-EU_M2309
designator R?, comment RESISTOR, European symbol
GateName_1: G$1; SymbolName_1: R-EU; DeviceName: M2309; DeviceSetName: R-EU_; POPULARITY: 0; LibraryName: rcl; Package: M2309; SPICEPREFIX: R
footprint M2309
pins: 1, 2

## R-EU_M3216
designator R?, comment RESISTOR, European symbol
GateName_1: G$1; SymbolName_1: R-EU; DeviceName: M3216; DeviceSetName: R-EU_; POPULARITY: 0; LibraryName: rcl; Package: M3216; SPICEPREFIX: R
footprint M3216
pins: 1, 2

## R-EU_M3516
designator R?, comment RESISTOR, European symbol
GateName_1: G$1; SymbolName_1: R-EU; DeviceName: M3516; DeviceSetName: R-EU_; POPULARITY: 0; LibraryName: rcl; Package: M3516; SPICEPREFIX: R
footprint M3516
pins: 1, 2

## R-EU_M5923
designator R?, comment RESISTOR, European symbol
GateName_1: G$1; SymbolName_1: R-EU; DeviceName: M5923; DeviceSetName: R-EU_; POPULARITY: 0; LibraryName: rcl; Package: M5923; SPICEPREFIX: R
footprint M5923
pins: 1, 2

## R-EU_MELF0102AX
designator R?, comment RESISTOR, European symbol
GateName_1: G$1; SymbolName_1: R-EU; DeviceName: MELF0102AX; DeviceSetName: R-EU_; POPULARITY: 0; LibraryName: rcl; Package: MINI_MELF-0102AX; SPICEPREFIX: R
footprint MINI_MELF-0102AX
pins: 1, 2

## R-EU_MELF0102R
designator R?, comment RESISTOR, European symbol
GateName_1: G$1; SymbolName_1: R-EU; DeviceName: MELF0102R; DeviceSetName: R-EU_; POPULARITY: 0; LibraryName: rcl; Package: MINI_MELF-0102R; SPICEPREFIX: R
footprint MINI_MELF-0102R
pins: 1, 2

## R-EU_MELF0102W
designator R?, comment RESISTOR, European symbol
GateName_1: G$1; SymbolName_1: R-EU; DeviceName: MELF0102W; DeviceSetName: R-EU_; POPULARITY: 0; LibraryName: rcl; Package: MINI_MELF-0102W; SPICEPREFIX: R
footprint MINI_MELF-0102W
pins: 1, 2

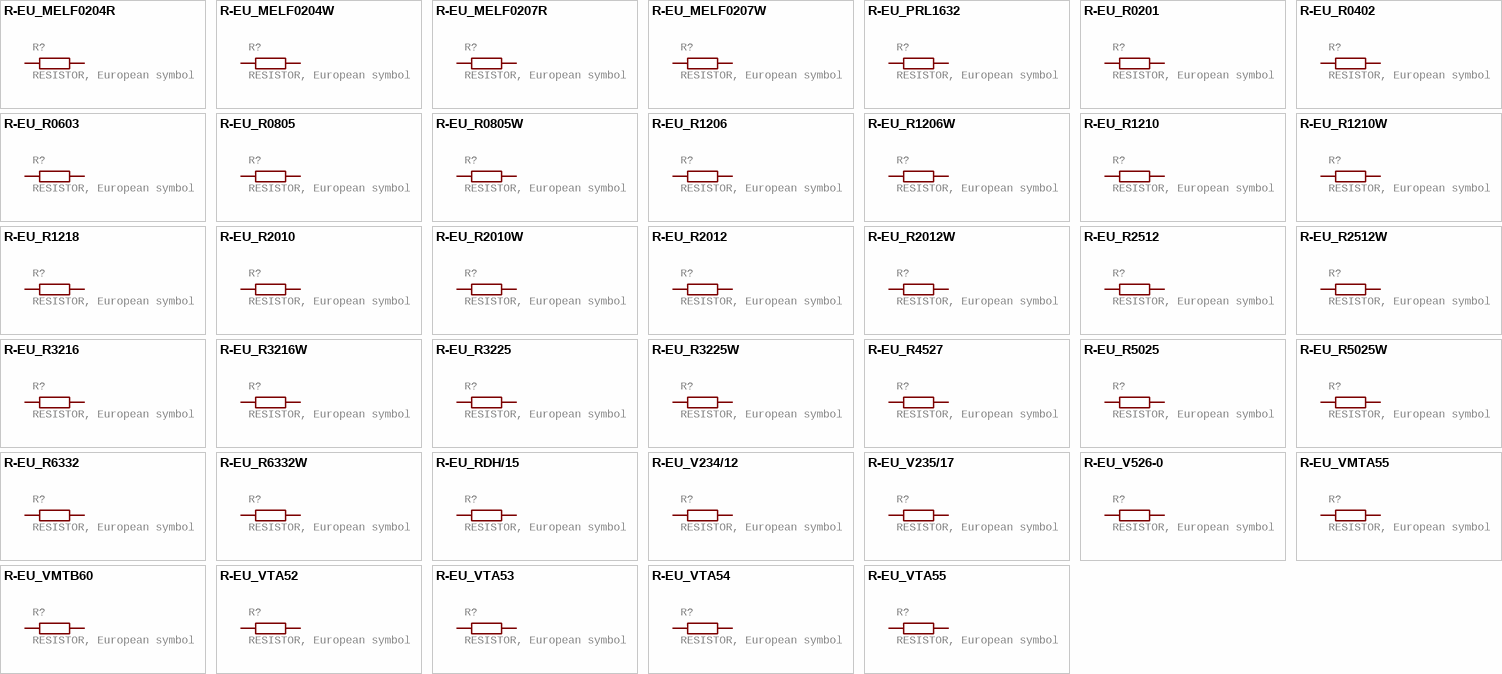
[diagram p18: symbols R-EU_MELF0204R to R-EU_VTA55]

## R-EU_MELF0204R
designator R?, comment RESISTOR, European symbol
GateName_1: G$1; SymbolName_1: R-EU; DeviceName: MELF0204R; DeviceSetName: R-EU_; POPULARITY: 0; LibraryName: rcl; Package: MINI_MELF-0204R; SPICEPREFIX: R
footprint MINI_MELF-0204R
pins: 1, 2

## R-EU_MELF0204W
designator R?, comment RESISTOR, European symbol
GateName_1: G$1; SymbolName_1: R-EU; DeviceName: MELF0204W; DeviceSetName: R-EU_; POPULARITY: 0; LibraryName: rcl; Package: MINI_MELF-0204W; SPICEPREFIX: R
footprint MINI_MELF-0204W
pins: 1, 2

## R-EU_MELF0207R
designator R?, comment RESISTOR, European symbol
GateName_1: G$1; SymbolName_1: R-EU; DeviceName: MELF0207R; DeviceSetName: R-EU_; POPULARITY: 0; LibraryName: rcl; Package: MINI_MELF-0207R; SPICEPREFIX: R
footprint MINI_MELF-0207R
pins: 1, 2

## R-EU_MELF0207W
designator R?, comment RESISTOR, European symbol
GateName_1: G$1; SymbolName_1: R-EU; DeviceName: MELF0207W; DeviceSetName: R-EU_; POPULARITY: 0; LibraryName: rcl; Package: MINI_MELF-0207W; SPICEPREFIX: R
footprint MINI_MELF-0207W
pins: 1, 2

## R-EU_PRL1632
designator R?, comment RESISTOR, European symbol
GateName_1: G$1; SymbolName_1: R-EU; DeviceName: PRL1632; DeviceSetName: R-EU_; POPULARITY: 0; LibraryName: rcl; Package: PRL1632; SPICEPREFIX: R
footprint PRL1632
pins: 1, 2

## R-EU_R0201
designator R?, comment RESISTOR, European symbol
GateName_1: G$1; SymbolName_1: R-EU; DeviceName: R0201; DeviceSetName: R-EU_; POPULARITY: 0; LibraryName: rcl; Package: R0201; SPICEPREFIX: R
footprint R0201
pins: 1, 2

## R-EU_R0402
designator R?, comment RESISTOR, European symbol
GateName_1: G$1; SymbolName_1: R-EU; DeviceName: R0402; DeviceSetName: R-EU_; POPULARITY: 0; LibraryName: rcl; Package: R0402; SPICEPREFIX: R
footprint R0402
pins: 1, 2

## R-EU_R0603
designator R?, comment RESISTOR, European symbol
GateName_1: G$1; SymbolName_1: R-EU; DeviceName: R0603; DeviceSetName: R-EU_; POPULARITY: 70; LibraryName: rcl; Package: R0603; SPICEPREFIX: R
footprint R0603
pins: 1, 2

## R-EU_R0805
designator R?, comment RESISTOR, European symbol
GateName_1: G$1; SymbolName_1: R-EU; DeviceName: R0805; DeviceSetName: R-EU_; POPULARITY: 86; LibraryName: rcl; Package: R0805; SPICEPREFIX: R
footprint R0805
pins: 1, 2

## R-EU_R0805W
designator R?, comment RESISTOR, European symbol
GateName_1: G$1; SymbolName_1: R-EU; DeviceName: R0805W; DeviceSetName: R-EU_; POPULARITY: 3; LibraryName: rcl; Package: R0805W; SPICEPREFIX: R
footprint R0805W
pins: 1, 2

## R-EU_R1206
designator R?, comment RESISTOR, European symbol
GateName_1: G$1; SymbolName_1: R-EU; DeviceName: R1206; DeviceSetName: R-EU_; POPULARITY: 41; LibraryName: rcl; Package: R1206; SPICEPREFIX: R
footprint R1206
pins: 1, 2

## R-EU_R1206W
designator R?, comment RESISTOR, European symbol
GateName_1: G$1; SymbolName_1: R-EU; DeviceName: R1206W; DeviceSetName: R-EU_; POPULARITY: 3; LibraryName: rcl; Package: R1206W; SPICEPREFIX: R
footprint R1206W
pins: 1, 2

## R-EU_R1210
designator R?, comment RESISTOR, European symbol
GateName_1: G$1; SymbolName_1: R-EU; DeviceName: R1210; DeviceSetName: R-EU_; POPULARITY: 0; LibraryName: rcl; Package: R1210; SPICEPREFIX: R
footprint R1210
pins: 1, 2

## R-EU_R1210W
designator R?, comment RESISTOR, European symbol
GateName_1: G$1; SymbolName_1: R-EU; DeviceName: R1210W; DeviceSetName: R-EU_; POPULARITY: 0; LibraryName: rcl; Package: R1210W; SPICEPREFIX: R
footprint R1210W
pins: 1, 2

## R-EU_R1218
designator R?, comment RESISTOR, European symbol
GateName_1: G$1; SymbolName_1: R-EU; DeviceName: R1218; DeviceSetName: R-EU_; POPULARITY: 0; LibraryName: rcl; Package: R1218; SPICEPREFIX: R
footprint R1218
pins: 1, 2

## R-EU_R2010
designator R?, comment RESISTOR, European symbol
GateName_1: G$1; SymbolName_1: R-EU; DeviceName: R2010; DeviceSetName: R-EU_; POPULARITY: 3; LibraryName: rcl; Package: R2010; SPICEPREFIX: R
footprint R2010
pins: 1, 2

## R-EU_R2010W
designator R?, comment RESISTOR, European symbol
GateName_1: G$1; SymbolName_1: R-EU; DeviceName: R2010W; DeviceSetName: R-EU_; POPULARITY: 0; LibraryName: rcl; Package: R2010W; SPICEPREFIX: R
footprint R2010W
pins: 1, 2

## R-EU_R2012
designator R?, comment RESISTOR, European symbol
GateName_1: G$1; SymbolName_1: R-EU; DeviceName: R2012; DeviceSetName: R-EU_; POPULARITY: 0; LibraryName: rcl; Package: R2012; SPICEPREFIX: R
footprint R2012
pins: 1, 2

## R-EU_R2012W
designator R?, comment RESISTOR, European symbol
GateName_1: G$1; SymbolName_1: R-EU; DeviceName: R2012W; DeviceSetName: R-EU_; POPULARITY: 0; LibraryName: rcl; Package: R2012W; SPICEPREFIX: R
footprint R2012W
pins: 1, 2

## R-EU_R2512
designator R?, comment RESISTOR, European symbol
GateName_1: G$1; SymbolName_1: R-EU; DeviceName: R2512; DeviceSetName: R-EU_; POPULARITY: 0; LibraryName: rcl; Package: R2512; SPICEPREFIX: R
footprint R2512
pins: 1, 2

## R-EU_R2512W
designator R?, comment RESISTOR, European symbol
GateName_1: G$1; SymbolName_1: R-EU; DeviceName: R2512W; DeviceSetName: R-EU_; POPULARITY: 0; LibraryName: rcl; Package: R2512W; SPICEPREFIX: R
footprint R2512W
pins: 1, 2

## R-EU_R3216
designator R?, comment RESISTOR, European symbol
GateName_1: G$1; SymbolName_1: R-EU; DeviceName: R3216; DeviceSetName: R-EU_; POPULARITY: 0; LibraryName: rcl; Package: R3216; SPICEPREFIX: R
footprint R3216
pins: 1, 2

## R-EU_R3216W
designator R?, comment RESISTOR, European symbol
GateName_1: G$1; SymbolName_1: R-EU; DeviceName: R3216W; DeviceSetName: R-EU_; POPULARITY: 5; LibraryName: rcl; Package: R3216W; SPICEPREFIX: R
footprint R3216W
pins: 1, 2

## R-EU_R3225
designator R?, comment RESISTOR, European symbol
GateName_1: G$1; SymbolName_1: R-EU; DeviceName: R3225; DeviceSetName: R-EU_; POPULARITY: 1; LibraryName: rcl; Package: R3225; SPICEPREFIX: R
footprint R3225
pins: 1, 2

## R-EU_R3225W
designator R?, comment RESISTOR, European symbol
GateName_1: G$1; SymbolName_1: R-EU; DeviceName: R3225W; DeviceSetName: R-EU_; POPULARITY: 0; LibraryName: rcl; Package: R3225W; SPICEPREFIX: R
footprint R3225W
pins: 1, 2

## R-EU_R4527
designator R?, comment RESISTOR, European symbol
GateName_1: G$1; SymbolName_1: R-EU; DeviceName: R4527; DeviceSetName: R-EU_; POPULARITY: 0; LibraryName: rcl; Package: R4527; SPICEPREFIX: R
footprint R4527
pins: 1, 2

## R-EU_R5025
designator R?, comment RESISTOR, European symbol
GateName_1: G$1; SymbolName_1: R-EU; DeviceName: R5025; DeviceSetName: R-EU_; POPULARITY: 0; LibraryName: rcl; Package: R5025; SPICEPREFIX: R
footprint R5025
pins: 1, 2

## R-EU_R5025W
designator R?, comment RESISTOR, European symbol
GateName_1: G$1; SymbolName_1: R-EU; DeviceName: R5025W; DeviceSetName: R-EU_; POPULARITY: 0; LibraryName: rcl; Package: R5025W; SPICEPREFIX: R
footprint R5025W
pins: 1, 2

## R-EU_R6332
designator R?, comment RESISTOR, European symbol
GateName_1: G$1; SymbolName_1: R-EU; DeviceName: R6332; DeviceSetName: R-EU_; POPULARITY: 0; LibraryName: rcl; Package: R6332; SPICEPREFIX: R
footprint R6332
pins: 1, 2

## R-EU_R6332W
designator R?, comment RESISTOR, European symbol
GateName_1: G$1; SymbolName_1: R-EU; DeviceName: R6332W; DeviceSetName: R-EU_; POPULARITY: 0; LibraryName: rcl; Package: R6332W; SPICEPREFIX: R
footprint R6332W
pins: 1, 2

## R-EU_RDH/15
designator R?, comment RESISTOR, European symbol
GateName_1: G$1; SymbolName_1: R-EU; DeviceName: RDH/15; DeviceSetName: R-EU_; POPULARITY: 1; LibraryName: rcl; Package: RDH/15; SPICEPREFIX: R
footprint RDH/15
pins: 1, 2

## R-EU_V234/12
designator R?, comment RESISTOR, European symbol
GateName_1: G$1; SymbolName_1: R-EU; DeviceName: V234/12; DeviceSetName: R-EU_; POPULARITY: 0; LibraryName: rcl; Package: V234/12; SPICEPREFIX: R
footprint V234/12
pins: 1, 2

## R-EU_V235/17
designator R?, comment RESISTOR, European symbol
GateName_1: G$1; SymbolName_1: R-EU; DeviceName: V235/17; DeviceSetName: R-EU_; POPULARITY: 3; LibraryName: rcl; Package: V235/17; SPICEPREFIX: R
footprint V235/17
pins: 1, 2

## R-EU_V526-0
designator R?, comment RESISTOR, European symbol
GateName_1: G$1; SymbolName_1: R-EU; DeviceName: V526-0; DeviceSetName: R-EU_; POPULARITY: 0; LibraryName: rcl; Package: V526-0; SPICEPREFIX: R
footprint V526-0
pins: 1, 2

## R-EU_VMTA55
designator R?, comment RESISTOR, European symbol
GateName_1: G$1; SymbolName_1: R-EU; DeviceName: VMTA55; DeviceSetName: R-EU_; POPULARITY: 0; LibraryName: rcl; Package: VMTA55; SPICEPREFIX: R
footprint VMTA55
pins: 1, 2

## R-EU_VMTB60
designator R?, comment RESISTOR, European symbol
GateName_1: G$1; SymbolName_1: R-EU; DeviceName: VMTB60; DeviceSetName: R-EU_; POPULARITY: 0; LibraryName: rcl; Package: VMTB60; SPICEPREFIX: R
footprint VMTB60
pins: 1, 2

## R-EU_VTA52
designator R?, comment RESISTOR, European symbol
GateName_1: G$1; SymbolName_1: R-EU; DeviceName: VTA52; DeviceSetName: R-EU_; POPULARITY: 0; LibraryName: rcl; Package: VTA52; SPICEPREFIX: R
footprint VTA52
pins: 1, 2

## R-EU_VTA53
designator R?, comment RESISTOR, European symbol
GateName_1: G$1; SymbolName_1: R-EU; DeviceName: VTA53; DeviceSetName: R-EU_; POPULARITY: 0; LibraryName: rcl; Package: VTA53; SPICEPREFIX: R
footprint VTA53
pins: 1, 2

## R-EU_VTA54
designator R?, comment RESISTOR, European symbol
GateName_1: G$1; SymbolName_1: R-EU; DeviceName: VTA54; DeviceSetName: R-EU_; POPULARITY: 0; LibraryName: rcl; Package: VTA54; SPICEPREFIX: R
footprint VTA54
pins: 1, 2

## R-EU_VTA55
designator R?, comment RESISTOR, European symbol
GateName_1: G$1; SymbolName_1: R-EU; DeviceName: VTA55; DeviceSetName: R-EU_; POPULARITY: 0; LibraryName: rcl; Package: VTA55; SPICEPREFIX: R
footprint VTA55
pins: 1, 2

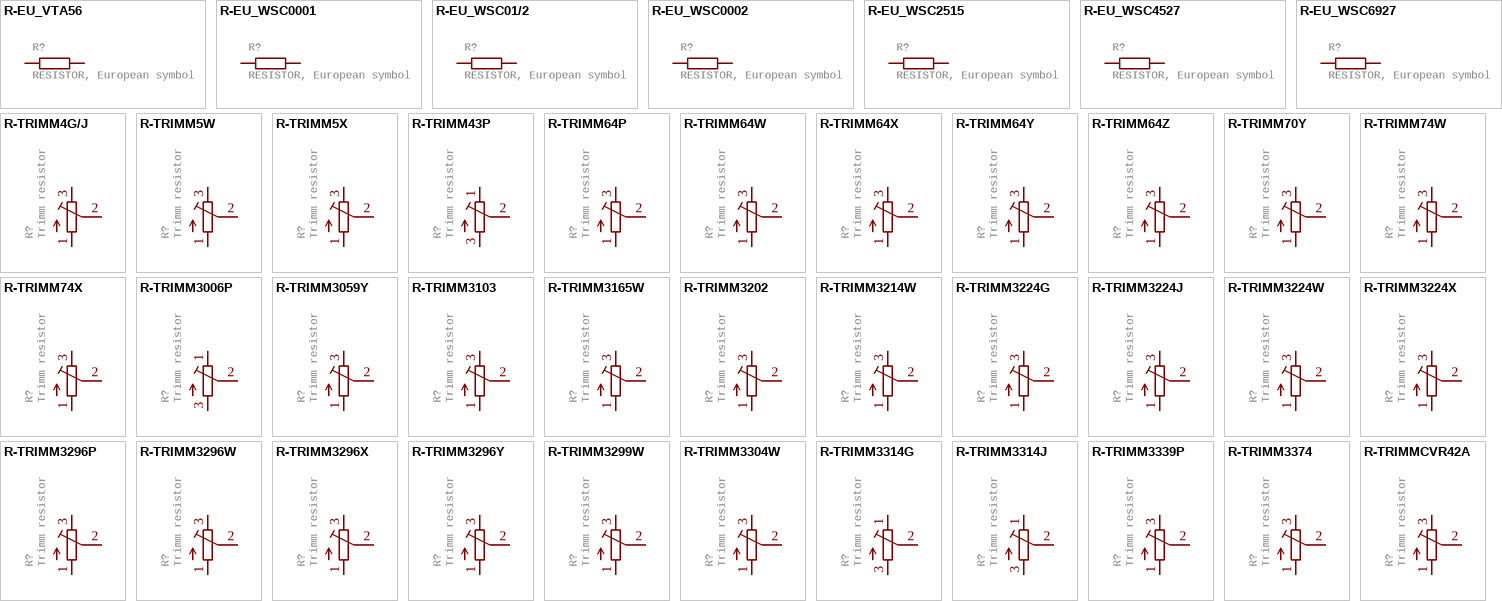
[diagram p19: symbols R-EU_VTA56 to R-TRIMMCVR42A]

## R-EU_VTA56
designator R?, comment RESISTOR, European symbol
GateName_1: G$1; SymbolName_1: R-EU; DeviceName: VTA56; DeviceSetName: R-EU_; POPULARITY: 0; LibraryName: rcl; Package: VTA56; SPICEPREFIX: R
footprint VTA56
pins: 1, 2

## R-EU_WSC0001
designator R?, comment RESISTOR, European symbol
GateName_1: G$1; SymbolName_1: R-EU; DeviceName: WSC0001; DeviceSetName: R-EU_; POPULARITY: 0; LibraryName: rcl; Package: WSC0001; SPICEPREFIX: R
footprint WSC0001
pins: 1, 2

## R-EU_WSC01/2
designator R?, comment RESISTOR, European symbol
GateName_1: G$1; SymbolName_1: R-EU; DeviceName: WSC01/2; DeviceSetName: R-EU_; POPULARITY: 0; LibraryName: rcl; Package: WSC01/2; SPICEPREFIX: R
footprint WSC01/2
pins: 1, 2

## R-EU_WSC0002
designator R?, comment RESISTOR, European symbol
GateName_1: G$1; SymbolName_1: R-EU; DeviceName: WSC0002; DeviceSetName: R-EU_; POPULARITY: 0; LibraryName: rcl; Package: WSC0002; SPICEPREFIX: R
footprint WSC0002
pins: 1, 2

## R-EU_WSC2515
designator R?, comment RESISTOR, European symbol
GateName_1: G$1; SymbolName_1: R-EU; DeviceName: WSC2515; DeviceSetName: R-EU_; POPULARITY: 0; LibraryName: rcl; Package: WSC2515; SPICEPREFIX: R
footprint WSC2515
pins: 1, 2

## R-EU_WSC4527
designator R?, comment RESISTOR, European symbol
GateName_1: G$1; SymbolName_1: R-EU; DeviceName: WSC4527; DeviceSetName: R-EU_; POPULARITY: 0; LibraryName: rcl; Package: WSC4527; SPICEPREFIX: R
footprint WSC4527
pins: 1, 2

## R-EU_WSC6927
designator R?, comment RESISTOR, European symbol
GateName_1: G$1; SymbolName_1: R-EU; DeviceName: WSC6927; DeviceSetName: R-EU_; POPULARITY: 0; LibraryName: rcl; Package: WSC6927; SPICEPREFIX: R
footprint WSC6927
pins: 1, 2

## R-TRIMM4G/J
designator R?, comment Trimm resistor
GateName_1: G$1; SymbolName_1: R-TRIM; DeviceName: 4G/J; DeviceSetName: R-TRIMM; POPULARITY: 1; LibraryName: rcl; Package: RTRIM4G/J; SPICEMODEL: X; SPICEPREFIXL: POT
footprint RTRIM4G/J
pins: 1 A, 2 S, 3 E

## R-TRIMM5W
designator R?, comment Trimm resistor
GateName_1: G$1; SymbolName_1: R-TRIM; DeviceName: 5W; DeviceSetName: R-TRIMM; POPULARITY: 0; LibraryName: rcl; Package: RTRIM5W; SPICEMODEL: X; SPICEPREFIXL: POT
footprint RTRIM5W
pins: 1 A, 2 S, 3 E

## R-TRIMM5X
designator R?, comment Trimm resistor
GateName_1: G$1; SymbolName_1: R-TRIM; DeviceName: 5X; DeviceSetName: R-TRIMM; POPULARITY: 0; LibraryName: rcl; Package: RTRIM5X; SPICEMODEL: X; SPICEPREFIXL: POT
footprint RTRIM5X
pins: 1 A, 2 S, 3 E

## R-TRIMM43P
designator R?, comment Trimm resistor
GateName_1: G$1; SymbolName_1: R-TRIM; DeviceName: 43P; DeviceSetName: R-TRIMM; POPULARITY: 4; LibraryName: rcl; Package: RTRIM43P; SPICEMODEL: X; SPICEPREFIXL: POT
footprint RTRIM43P
pins: 1 E, 2 S, 3 A

## R-TRIMM64P
designator R?, comment Trimm resistor
GateName_1: G$1; SymbolName_1: R-TRIM; DeviceName: 64P; DeviceSetName: R-TRIMM; POPULARITY: 21; LibraryName: rcl; Package: RTRIM64P; SPICEMODEL: X; SPICEPREFIXL: POT
footprint RTRIM64P
pins: 1 A, 2 S, 3 E

## R-TRIMM64W
designator R?, comment Trimm resistor
GateName_1: G$1; SymbolName_1: R-TRIM; DeviceName: 64W; DeviceSetName: R-TRIMM; POPULARITY: 0; LibraryName: rcl; Package: RTRIM64W; SPICEMODEL: X; SPICEPREFIXL: POT
footprint RTRIM64W
pins: 1 A, 2 S, 3 E

## R-TRIMM64X
designator R?, comment Trimm resistor
GateName_1: G$1; SymbolName_1: R-TRIM; DeviceName: 64X; DeviceSetName: R-TRIMM; POPULARITY: 2; LibraryName: rcl; Package: RTRIM64X; SPICEMODEL: X; SPICEPREFIXL: POT
footprint RTRIM64X
pins: 1 A, 2 S, 3 E

## R-TRIMM64Y
designator R?, comment Trimm resistor
GateName_1: G$1; SymbolName_1: R-TRIM; DeviceName: 64Y; DeviceSetName: R-TRIMM; POPULARITY: 0; LibraryName: rcl; Package: RTRIM64Y; SPICEMODEL: X; SPICEPREFIXL: POT
footprint RTRIM64Y
pins: 1 A, 2 S, 3 E

## R-TRIMM64Z
designator R?, comment Trimm resistor
GateName_1: G$1; SymbolName_1: R-TRIM; DeviceName: 64Z; DeviceSetName: R-TRIMM; POPULARITY: 0; LibraryName: rcl; Package: RTRIM64Z; SPICEMODEL: X; SPICEPREFIXL: POT
footprint RTRIM64Z
pins: 1 A, 2 S, 3 E

## R-TRIMM70Y
designator R?, comment Trimm resistor
GateName_1: G$1; SymbolName_1: R-TRIM; DeviceName: 70Y; DeviceSetName: R-TRIMM; POPULARITY: 0; LibraryName: rcl; Package: RTRIM70Y; SPICEMODEL: X; SPICEPREFIXL: POT
footprint RTRIM70Y
pins: 1 A, 2 S, 3 E

## R-TRIMM74W
designator R?, comment Trimm resistor
GateName_1: G$1; SymbolName_1: R-TRIM; DeviceName: 74W; DeviceSetName: R-TRIMM; POPULARITY: 0; LibraryName: rcl; Package: RTRIM74W; SPICEMODEL: X; SPICEPREFIXL: POT
footprint RTRIM74W
pins: 1 A, 2 S, 3 E

## R-TRIMM74X
designator R?, comment Trimm resistor
GateName_1: G$1; SymbolName_1: R-TRIM; DeviceName: 74X; DeviceSetName: R-TRIMM; POPULARITY: 0; LibraryName: rcl; Package: RTRIM74X; SPICEMODEL: X; SPICEPREFIXL: POT
footprint RTRIM74X
pins: 1 A, 2 S, 3 E

## R-TRIMM3006P
designator R?, comment Trimm resistor
GateName_1: G$1; SymbolName_1: R-TRIM; DeviceName: 3006P; DeviceSetName: R-TRIMM; POPULARITY: 3; LibraryName: rcl; Package: RTRIM3006P; SPICEMODEL: X; SPICEPREFIXL: POT
footprint RTRIM3006P
pins: 1 E, 2 S, 3 A

## R-TRIMM3059Y
designator R?, comment Trimm resistor
GateName_1: G$1; SymbolName_1: R-TRIM; DeviceName: 3059Y; DeviceSetName: R-TRIMM; POPULARITY: 0; LibraryName: rcl; Package: RTRIM3059Y; SPICEMODEL: X; SPICEPREFIXL: POT
footprint RTRIM3059Y
pins: 1 A, 2 S, 3 E

## R-TRIMM3103
designator R?, comment Trimm resistor
GateName_1: G$1; SymbolName_1: R-TRIM; DeviceName: 3103; DeviceSetName: R-TRIMM; POPULARITY: 0; LibraryName: rcl; Package: RTRIM3103; SPICEMODEL: X; SPICEPREFIXL: POT
footprint RTRIM3103
pins: 1 A, 2 S, 3 E

## R-TRIMM3165W
designator R?, comment Trimm resistor
GateName_1: G$1; SymbolName_1: R-TRIM; DeviceName: 3165W; DeviceSetName: R-TRIMM; POPULARITY: 0; LibraryName: rcl; Package: RTRIM3165W; SPICEMODEL: X; SPICEPREFIXL: POT
footprint RTRIM3165W
pins: 1 A, 2 S, 3 E

## R-TRIMM3202
designator R?, comment Trimm resistor
GateName_1: G$1; SymbolName_1: R-TRIM; DeviceName: 3202; DeviceSetName: R-TRIMM; POPULARITY: 0; LibraryName: rcl; Package: RTRIM3202; SPICEMODEL: X; SPICEPREFIXL: POT
footprint RTRIM3202
pins: 1 A, 2 S, 3 E

## R-TRIMM3214W
designator R?, comment Trimm resistor
GateName_1: G$1; SymbolName_1: R-TRIM; DeviceName: 3214W; DeviceSetName: R-TRIMM; POPULARITY: 4; LibraryName: rcl; Package: RTRIM3214W; SPICEMODEL: X; SPICEPREFIXL: POT
footprint RTRIM3214W
pins: 1 A, 2 S, 3 E